# Altium schematic symbol library BAV99S.SchLib: 1 symbol
Pins are listed as number, name and electrical type; pins without a type are passive.

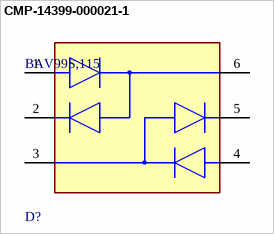
[diagram p0: symbol CMP-14399-000021-1]

## CMP-14399-000021-1
designator D?, comment BAV99S,115
DIODE ARRAY GP 100V 200MA 6TSSOP; RoHS Compliant: Yes
footprint FP-SOT363-IPC_A
footprint FP-SOT363-MFG
footprint FP-SOT363-IPC_C
footprint FP-SOT363-IPC_B
pins: 1 anode(diode 1), 2 cathode(diode 2), 3 cathode(diode 3)/anode(diode 4), 4 anode(diode 3), 5 cathode(diode 4), 6 cathode(diode 1)/anode(diode 2)